# Altium schematic symbol library 100uf Capacitor.SchLib: 1 symbol
Pins are listed as number, name and electrical type; pins without a type are passive.

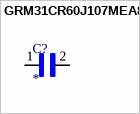
[diagram p0: symbol GRM31CR60J107MEA8K]

## GRM31CR60J107MEA8K
designator C?
MP: GRM31CR60J107MEA8K; Package: None; Price: None; Value: *; Availability: Unavailable
footprint CAPC3216X190N
pins: 1, 2